# Altium footprint library Led.PcbLib: 6 footprints
Each footprint in its own frame and in the unit in brackets; x right, y up, seen from the top. Pads: shape width x height; smd on the part's side, far side on the other; paste and mask are expansions set on the pad; w line width, h text height; cw(c..) or ccw(c..) is an arc to the next point about the centre after c.
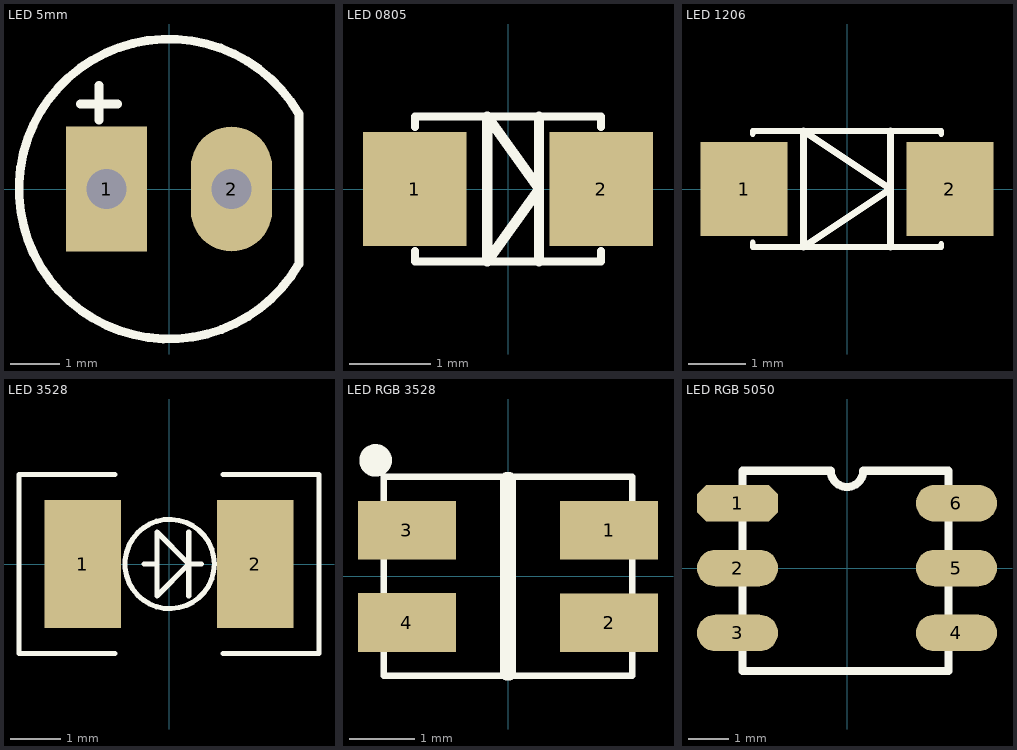
[diagram p0: the footprints below, top view; thin cyan lines are the x and y axes]

## LED 5mm [mil]
pads (2):
  rect 65x100 hole 32: 1(-50,0)
  oval 65x100 hole 32: 2(50,0)
Top Overlay:
  lines w7: -71,68 -41,68 ; -56,55 -56,83 ; 103.51,60.71 ccw(c0,0) 103.94,-59.97 ; 104,-59 104,60
3D body "5 mm yellow led.step": height 340.05, standoff -767.12, extent -124,-125 120.88,120.26

## LED 0805 [mil]
pads (2):
  rect 50x55 smd: 1(-45,0) 2(45,0)
Top Overlay:
  lines w4: -45,-30 -45,-35 45,-35 45,-30 ; -45,30 -45,35 45,35 45,30
  lines w5: 15,-35 15,35 ; -10,-35 -10,35 15,0 -10,-35
3D body "User Library-led_0805-red.step": height 43.31, standoff 0, extent -39.75,-24.6 39.77,24.62

## LED 1206 [mil]
pads (2):
  rect 60x65 smd: 1(-71,0) 2(71,0)
Top Overlay:
  lines w4: -65,-37 -65,-40 65,-40 65,-38 ; -65,38 -65,40 65,40 65,38
  lines w5: 30,-40 30,40 ; -30,-40 -30,40 30,0 -30,-40
3D body "User Library-led_1206-red.step": height 43.31, standoff 0, extent -64.38,-31.49 62.39,31.5

## LED 3528 [mil]
pads (2):
  rect 60x100 smd: 1(-67.5,0) 2(67.5,0)
Top Overlay:
  circle w4: c0.5,0 r35
  lines w4: -42.5,-70 -117.5,-70 -117.5,70 -42.5,70 ; 15.5,-25 15.5,0 ; 15.5,25 15.5,0 ; 25.5,0 15.5,0 ; 42.5,-70 117.5,-70 117.5,70 42.5,70 ; -9.5,0 -19.5,0 -9.5,0 ; -9.5,0 -9.5,25 15.5,0 ; -9.5,0 -9.5,-25 15.5,0
3D body: height 61, standoff 60, extent -70.3,-60 -47.5,-37.2
3D body: height 70, standoff 60, extent -37.5,-40 42.5,40
3D body: height 60, standoff 15, extent -70.3,-60 69.9,60
3D body: height 19.68, standoff 0, extent -27.5,-60 27.5,60
3D body: height 43.31, standoff 0, extent -87.03,-31.5 -75.22,32.48
3D body: height 43.31, standoff 27.56, extent -87.03,-31.5 -70.3,32.48
3D body: height 11.81, standoff 0, extent -87.03,-31.5 -48.64,32.48
3D body: height 11.81, standoff 0, extent 48.25,-31.5 86.63,32.48
3D body: height 43.31, standoff 27.56, extent 69.9,-31.5 86.63,32.48
3D body: height 43.31, standoff 0, extent 74.82,-31.5 86.63,32.48
3D body: height 75, standoff 60, extent -70.3,-60 69.9,60
3D body: height 65, standoff 60, extent -7.5,-10 7.5,5
3D body: height 61, standoff 60, extent -12.81,-36.96 42.85,36.96
3D body: height 61, standoff 60, extent -37.5,-10 -17.5,5

## LED RGB 3528 [mm]
pads (4):
  rect 1.5x0.9 smd: 1(1.55,0.709) 2(1.55,-0.709) 3(-1.55,0.709) 4(-1.55,-0.706)
Top Overlay:
  circle w0.25: c-2.03,1.779 r0.125
  lines w0.1: -1.905,-1.523 -1.905,1.525 1.905,1.525 1.905,-1.523 -1.905,-1.523
  lines w0.2: -0.025,-1.499 0.025,-1.499 0.025,1.501 -0.025,1.501 -0.025,-1.499
Mechanical 15:
  lines w0.1: 0,-0.499 0,0.501
3D body "WL-SBTW_1411_RV.stp": height 1.87, standoff -0.03, extent -1.75,-1.399 1.75,1.401

## LED RGB 5050 [mm]
pads (6):
  oct 2x0.9 smd: 1(-2.7,1.6)
  oval 2x0.9 smd: 2(-2.7,0) 3(-2.7,-1.6) 4(2.7,-1.6) 5(2.7,0) 6(2.7,1.6)
Top Overlay:
  lines w0.2: -2.573,-2.54 -2.573,2.4 -0.4,2.4 ccw(c0,2.4) 0.4,2.4 2.507,2.4 2.507,-2.54 -2.573,-2.54
3D body "User Library-smd_led_5050.step": height 1.6, standoff 0, extent -2.683,-2.54 2.617,2.46